# Altium footprint library 4n35-smd.PcbLib: 1 footprints
Each footprint in its own frame and in the unit in brackets; x right, y up, seen from the top. Pads: shape width x height; smd on the part's side, far side on the other; paste and mask are expansions set on the pad; w line width, h text height; cw(c..) or ccw(c..) is an arc to the next point about the centre after c.
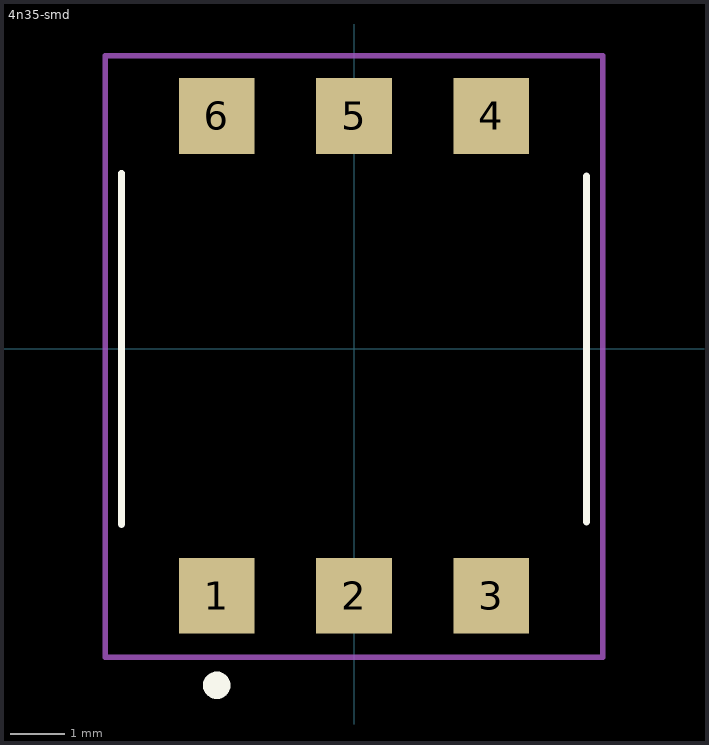
[diagram p0: the footprint, top view; thin cyan lines are the x and y axes]

## 4n35-smd [mm]
pads (6):
  rect 1.4x1.4 smd: 1(-2.54,-4.564) 2(0,-4.564) 3(2.54,-4.564) 4(2.54,4.31) 5(0,4.31) 6(-2.54,4.31)
Top Overlay:
  circle w0.254: c-2.54,-6.223 r0.127
  lines w0.127: -4.3,-3.25 -4.3,3.25 ; 4.3,-3.2 4.3,3.2
Mechanical 15:
  lines w0.1: -4.6,-5.7 -4.6,5.3 -4.6,5.423 4.6,5.423 4.6,-5.7 -4.6,-5.7
3D body "4N35S(TA)-V.STEP": height 5.09, standoff 0.01, extent -4.22,-4.682 4.29,4.483